# Altium footprint library inverted_F.PcbLib: 1 footprints
Each footprint in its own frame and in the unit in brackets; x right, y up, seen from the top. Pads: shape width x height; smd on the part's side, far side on the other; paste and mask are expansions set on the pad; w line width, h text height; cw(c..) or ccw(c..) is an arc to the next point about the centre after c.
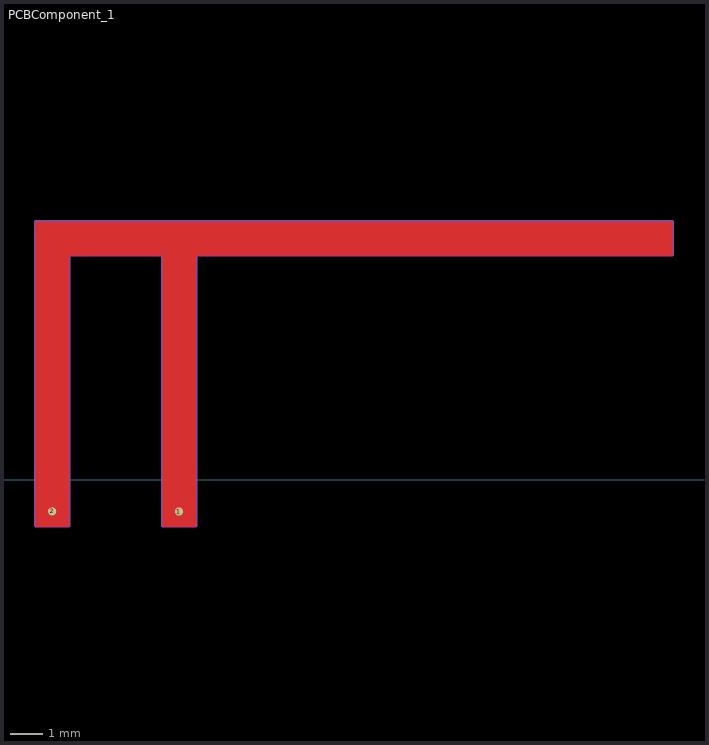
[diagram p0: the footprint, top view; thin cyan lines are the x and y axes]

## PCBComponent_1 [mil]
pads (2):
  round 10 smd paste-10 mask-10: 1(662.13,-38.39) 2(509.13,-38.25)
Top Layer:
  region: 489.45,311.1 1257.17,311.1 1257.17,270.97 682.45,270.97 682.45,-56.1 642.45,-56.1 642.45,270.97 529.45,270.97 529.45,-56.1 509.45,-56.1 489.45,-56.1
Mechanical 11:
  lines w3.94: 489.45,-55.97 529.45,-55.97 529.45,271.03 642.45,271.03 642.45,-55.97 682.45,-55.97 682.45,271.03 1257.17,271.03 1257.17,311.03 489.45,311.03 489.45,-55.97